# Altium footprint library Aluminum_Electrolytic_Capacitors_Radial.PcbLib: 8 footprints
Each footprint in its own frame and in the unit in brackets; x right, y up, seen from the top. Pads: shape width x height; smd on the part's side, far side on the other; paste and mask are expansions set on the pad; w line width, h text height; cw(c..) or ccw(c..) is an arc to the next point about the centre after c.
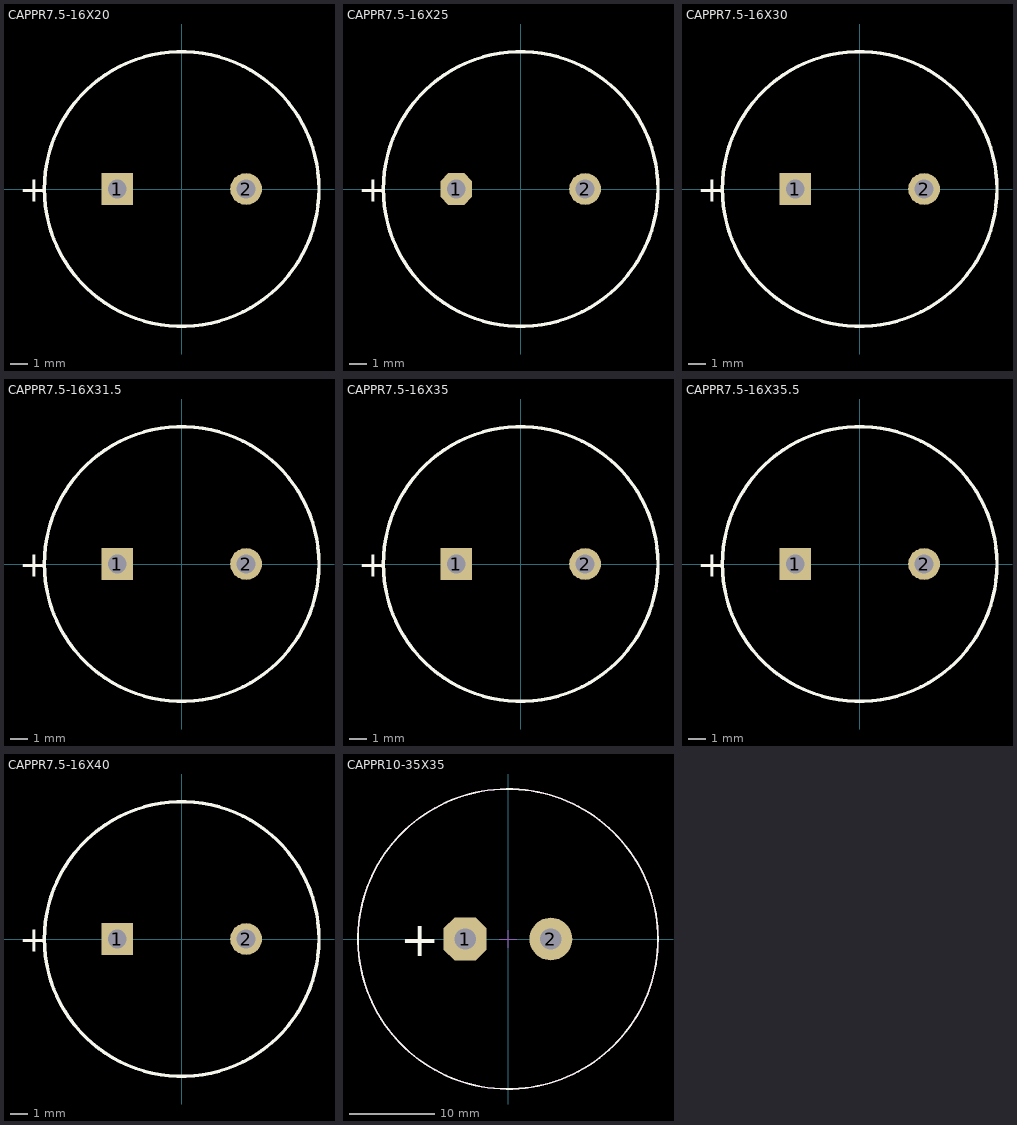
[diagram p0: the footprints below, top view; thin cyan lines are the x and y axes]

## CAPPR7.5-16X20 [mm] "Capacitor, Electrolytic, Radial; Body 16 x 20 mm (Dia.xH typ); Pin Spacing 7.5 mm (typ)"
height 21.5
pads (2):
  rect 1.85x1.85 hole 1.1: 1(-3.75,0)
  round 1.85 hole 1.1: 2(3.75,0)
Top Overlay:
  circle w0.2: c0,0 r8
  text "+" at -9.475,-0.75 h1.5

## CAPPR7.5-16X25 [mm] "Capacitor, Electrolytic, Radial; Body 16 x 25 mm (Dia.xH typ); Pin Spacing 7.5 mm (typ)"
height 27
pads (2):
  oct 1.85x1.85 hole 1.1: 1(-3.75,0)
  round 1.85 hole 1.1: 2(3.75,0)
Top Overlay:
  circle w0.2: c0,0 r8
  text "+" at -9.475,-0.75 h1.5
3D body "ElCapVT-7.5-16x25.step": height 25.05, standoff -2.95, extent -8.001,-7.997 8,7.997

## CAPPR7.5-16X30 [mm] "Capacitor, Electrolytic, Radial; Body 16 x 30 mm (Dia.xH typ); Pin Spacing 7.5 mm (typ)"
height 31.5
pads (2):
  rect 1.85x1.85 hole 1.1: 1(-3.75,0)
  round 1.85 hole 1.1: 2(3.75,0)
Top Overlay:
  circle w0.2: c0,0 r8
  text "+" at -9.475,-0.75 h1.5

## CAPPR7.5-16X31.5 [mm] "Capacitor, Electrolytic, Radial; Body 16 x 31.5 mm (Dia.xH typ); Pin Spacing 7.5 mm (typ)"
height 33.5
pads (2):
  rect 1.85x1.85 hole 1.1: 1(-3.75,0)
  round 1.85 hole 1.1: 2(3.75,0)
Top Overlay:
  circle w0.2: c0,0 r8
  text "+" at -9.475,-0.75 h1.5

## CAPPR7.5-16X35 [mm] "Capacitor, Electrolytic, Radial; Body 16 x 35 mm (Dia.xH typ); Pin Spacing 7.5 mm (typ)"
height 36.5
pads (2):
  rect 1.85x1.85 hole 1.1: 1(-3.75,0)
  round 1.85 hole 1.1: 2(3.75,0)
Top Overlay:
  circle w0.2: c0,0 r8
  text "+" at -9.475,-0.75 h1.5

## CAPPR7.5-16X35.5 [mm] "Capacitor, Electrolytic, Radial; Body 16 x 35.5 mm (Dia.xH typ); Pin Spacing 7.5 mm (typ)"
height 37.5
pads (2):
  rect 1.85x1.85 hole 1.1: 1(-3.75,0)
  round 1.85 hole 1.1: 2(3.75,0)
Top Overlay:
  circle w0.2: c0,0 r8
  text "+" at -9.475,-0.75 h1.5

## CAPPR7.5-16X40 [mm] "Capacitor, Electrolytic, Radial; Body 16 x 40 mm (Dia.xH typ); Pin Spacing 7.5 mm (typ)"
height 41.5
pads (2):
  rect 1.85x1.85 hole 1.1: 1(-3.75,0)
  round 1.85 hole 1.1: 2(3.75,0)
Top Overlay:
  circle w0.2: c0,0 r8
  text "+" at -9.475,-0.75 h1.5

## CAPPR10-35X35 [mm] "Capacitor, Electrolytic, Radial; Body 35 x 35 mm (Dia.xH typ); Pin Spacing 10 mm (typ)"
height 35
pads (2):
  oct 5x5 hole 2.5: 1(-5,0)
  round 5 hole 2.5: 2(5,0)
Top Overlay:
  circle w0.2: c0,0 r17.5
  text "+" at -12.583,-1.999 h4
Top Assembly:
  circle w0.178: c0,0 r17.5
  text "+" at -12.583,-1.999 h4
Top Component Outline:
  lines w0.1: -1,0 1,0 ; 0,-1 0,0 0,1
3D body "Snap-Cap 35mm W x 35mm H 10mm pitch.step": height 35, standoff -6.2, extent -24.748,-24.749 24.748,24.748